# Altium footprint library JST SH Connectors.PcbLib: 29 footprints (part 1 of 2)
Each footprint in its own frame and in the unit in brackets; x right, y up, seen from the top. Pads: shape width x height; smd on the part's side, far side on the other; paste and mask are expansions set on the pad; w line width, h text height; cw(c..) or ccw(c..) is an arc to the next point about the centre after c.
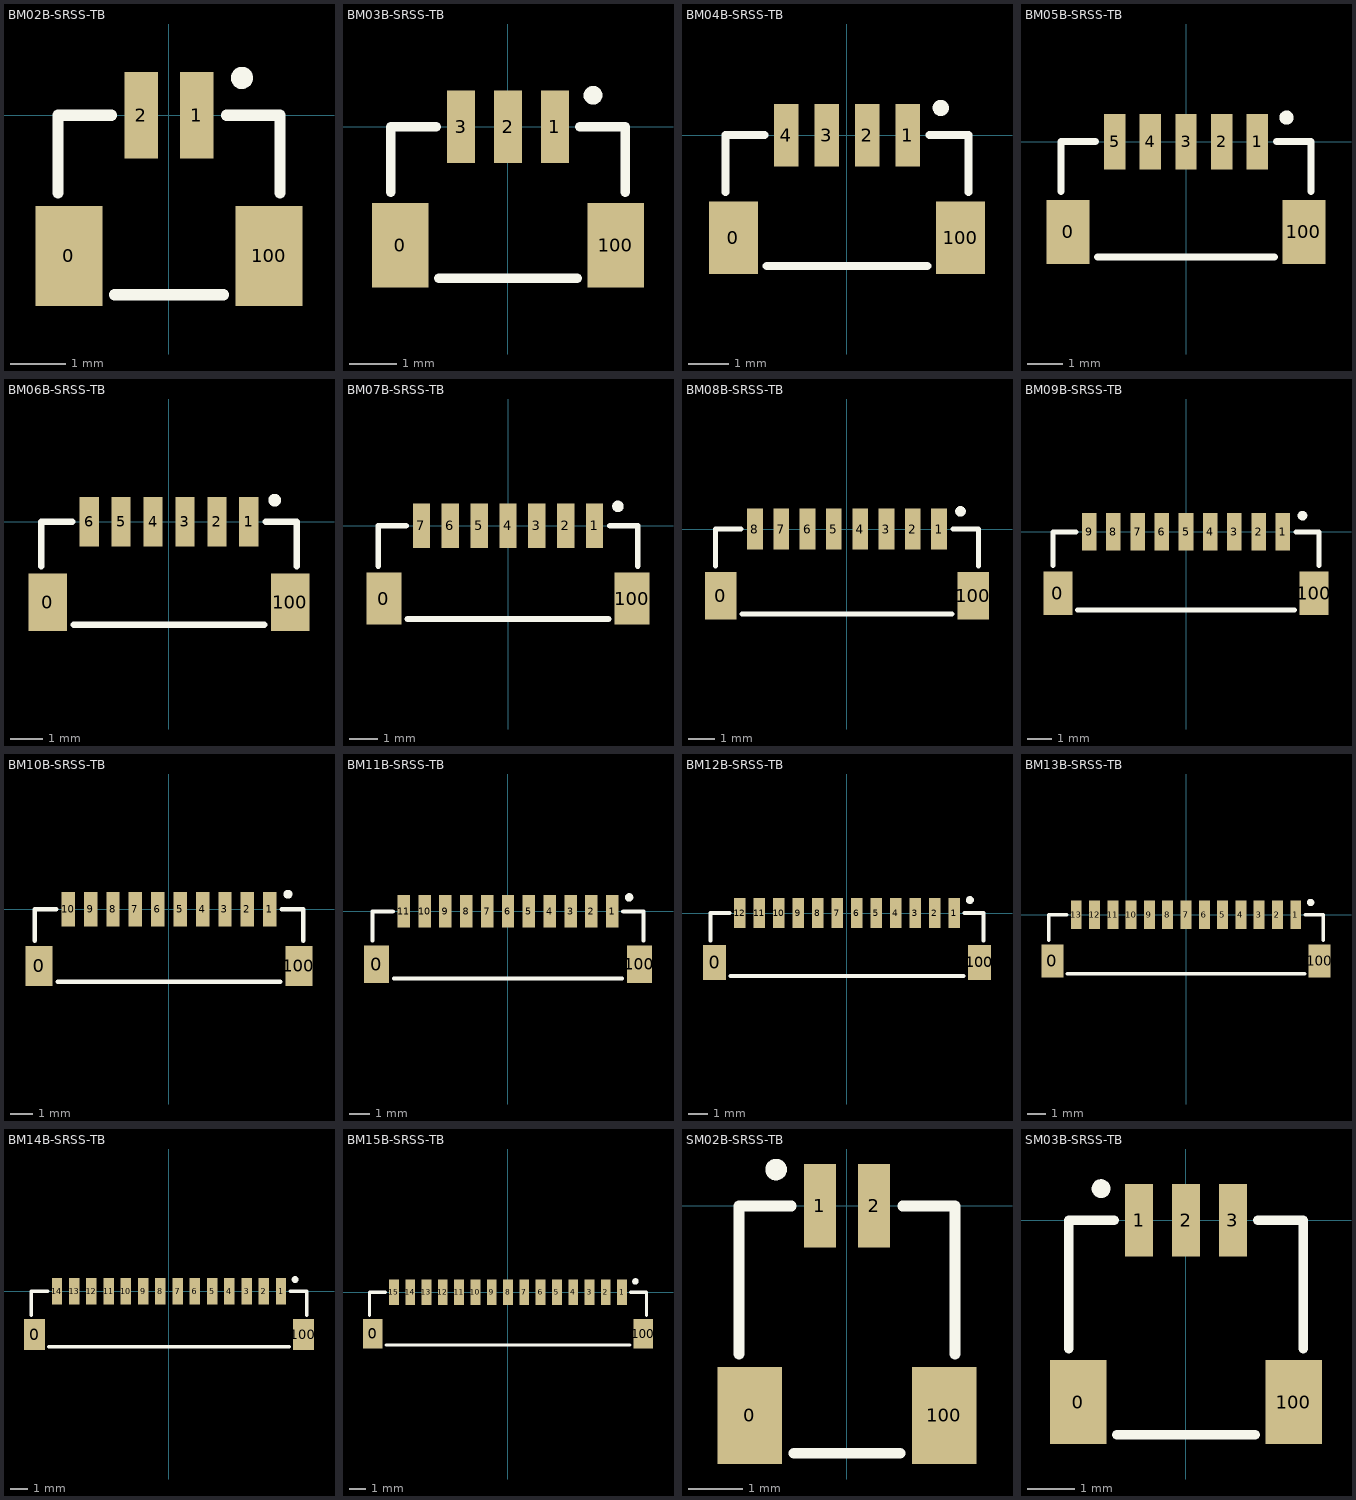
[diagram p0: the footprints below, top view; thin cyan lines are the x and y axes]

## BM02B-SRSS-TB [mm]
pads (4):
  rect 1.2x1.8 smd: 0(-1.8,-2.53) 100(1.8,-2.53)
  rect 0.6x1.55 smd: 1(0.5,0) 2(-0.5,0)
Top Overlay:
  circle w0.2: c1.313,0.672 r0.1
  lines w0.2: -2,-1.397 -2,0 -1.033,0 ; -0.98,-3.23 0.98,-3.23 ; 1.033,0 2,0 2,-1.397
3D body "BM02B-SRSS-TB.STEP": height 4.33, standoff 0.01, extent -2,-3.23 2,0.37

## BM03B-SRSS-TB [mm]
pads (5):
  rect 1.2x1.8 smd: 0(-2.3,-2.53) 100(2.3,-2.53)
  rect 0.6x1.55 smd: 1(1,0) 2(0,0) 3(-1,0)
Top Overlay:
  circle w0.2: c1.813,0.672 r0.1
  lines w0.2: -2.5,-1.397 -2.5,0 -1.533,0 ; -1.48,-3.23 1.48,-3.23 ; 1.533,0 2.5,0 2.5,-1.397
3D body "BM03B-SRSS-TB.STEP": height 4.33, standoff 0.01, extent -2.5,-3.23 2.5,0.37

## BM04B-SRSS-TB [mm]
pads (6):
  rect 1.2x1.8 smd: 0(-2.8,-2.53) 100(2.8,-2.53)
  rect 0.6x1.55 smd: 1(1.5,0) 2(0.5,0) 3(-0.5,0) 4(-1.5,0)
Top Overlay:
  circle w0.2: c2.313,0.672 r0.1
  lines w0.2: -3,-1.397 -3,0 -2.033,0 ; -1.98,-3.23 1.98,-3.23 ; 2.033,0 3,0 3,-1.397
3D body "BM04B-SRSS-TB.STEP": height 4.25, standoff -0.07, extent -3,-3.23 3,0.37

## BM05B-SRSS-TB [mm]
pads (7):
  rect 1.2x1.8 smd: 0(-3.3,-2.53) 100(3.3,-2.53)
  rect 0.6x1.55 smd: 1(2,0) 2(1,0) 3(0,0) 4(-1,0) 5(-2,0)
Top Overlay:
  circle w0.2: c2.813,0.672 r0.1
  lines w0.2: -3.5,-1.397 -3.5,0 -2.533,0 ; -2.48,-3.23 2.48,-3.23 ; 2.533,0 3.5,0 3.5,-1.397
3D body "BM05B-SRSS-TB.STEP": height 4.25, standoff -0.07, extent -3.5,-3.23 3.5,0.37

## BM06B-SRSS-TB [mm]
pads (8):
  rect 1.2x1.8 smd: 0(-3.8,-2.53) 100(3.8,-2.53)
  rect 0.6x1.55 smd: 1(2.5,0) 2(1.5,0) 3(0.5,0) 4(-0.5,0) 5(-1.5,0) 6(-2.5,0)
Top Overlay:
  circle w0.2: c3.313,0.672 r0.1
  lines w0.2: -4,-1.397 -4,0 -3.033,0 ; -2.98,-3.23 2.98,-3.23 ; 3.033,0 4,0 4,-1.397
3D body "BM06B-SRSS-TB.STEP": height 4.25, standoff -0.07, extent -4,-3.23 4,0.37

## BM07B-SRSS-TB [mm]
pads (9):
  rect 1.2x1.8 smd: 0(-4.3,-2.53) 100(4.3,-2.53)
  rect 0.6x1.55 smd: 1(3,0) 2(2,0) 3(1,0) 4(0,0) 5(-1,0) 6(-2,0) 7(-3,0)
Top Overlay:
  circle w0.2: c3.813,0.672 r0.1
  lines w0.2: -4.5,-1.397 -4.5,0 -3.533,0 ; -3.48,-3.23 3.48,-3.23 ; 3.533,0 4.5,0 4.5,-1.397
3D body "BM07B-SRSS-TB.STEP": height 4.33, standoff 0.01, extent -4.5,-3.23 4.5,0.37

## BM08B-SRSS-TB [mm]
pads (10):
  rect 1.2x1.8 smd: 0(-4.8,-2.53) 100(4.8,-2.53)
  rect 0.6x1.55 smd: 1(3.5,0) 2(2.5,0) 3(1.5,0) 4(0.5,0) 5(-0.5,0) 6(-1.5,0) 7(-2.5,0) 8(-3.5,0)
Top Overlay:
  circle w0.2: c4.313,0.672 r0.1
  lines w0.2: -5,-1.397 -5,0 -4.033,0 ; -3.98,-3.23 3.98,-3.23 ; 4.033,0 5,0 5,-1.397
3D body "BM08B-SRSS-TB.STEP": height 4.25, standoff -0.07, extent -5,-3.23 5,0.37

## BM09B-SRSS-TB [mm]
pads (11):
  rect 1.2x1.8 smd: 0(-5.3,-2.53) 100(5.3,-2.53)
  rect 0.6x1.55 smd: 1(4,0) 2(3,0) 3(2,0) 4(1,0) 5(0,0) 6(-1,0) 7(-2,0) 8(-3,0) 9(-4,0)
Top Overlay:
  circle w0.2: c4.813,0.672 r0.1
  lines w0.2: -5.5,-1.397 -5.5,0 -4.533,0 ; -4.48,-3.23 4.48,-3.23 ; 4.533,0 5.5,0 5.5,-1.397
3D body "BM09B-SRSS-TB.STEP": height 4.25, standoff -0.07, extent -5.5,-3.23 5.5,0.37

## BM10B-SRSS-TB [mm]
pads (12):
  rect 1.2x1.8 smd: 0(-5.8,-2.53) 100(5.8,-2.53)
  rect 0.6x1.55 smd: 1(4.5,0) 2(3.5,0) 3(2.5,0) 4(1.5,0) 5(0.5,0) 6(-0.5,0) 7(-1.5,0) 8(-2.5,0) 9(-3.5,0) 10(-4.5,0)
Top Overlay:
  circle w0.2: c5.313,0.672 r0.1
  lines w0.2: -6,-1.397 -6,0 -5.033,0 ; -4.98,-3.23 4.98,-3.23 ; 5.033,0 6,0 6,-1.397
3D body "BM10B-SRSS-TB.STEP": height 4.25, standoff -0.07, extent -6,-3.23 6,0.37

## BM11B-SRSS-TB [mm]
pads (13):
  rect 1.2x1.8 smd: 0(-6.3,-2.53) 100(6.3,-2.53)
  rect 0.6x1.55 smd: 1(5,0) 2(4,0) 3(3,0) 4(2,0) 5(1,0) 6(0,0) 7(-1,0) 8(-2,0) 9(-3,0) 10(-4,0) 11(-5,0)
Top Overlay:
  circle w0.2: c5.813,0.672 r0.1
  lines w0.2: -6.5,-1.397 -6.5,0 -5.533,0 ; -5.48,-3.23 5.48,-3.23 ; 5.533,0 6.5,0 6.5,-1.397
3D body "BM11B-SRSS-TB.STEP": height 4.25, standoff -0.07, extent -6.5,-3.23 6.5,0.37

## BM12B-SRSS-TB [mm]
pads (14):
  rect 1.2x1.8 smd: 0(-6.8,-2.53) 100(6.8,-2.53)
  rect 0.6x1.55 smd: 1(5.5,0) 2(4.5,0) 3(3.5,0) 4(2.5,0) 5(1.5,0) 6(0.5,0) 7(-0.5,0) 8(-1.5,0) 9(-2.5,0) 10(-3.5,0) 11(-4.5,0) 12(-5.5,0)
Top Overlay:
  circle w0.2: c6.313,0.672 r0.1
  lines w0.2: -7,-1.397 -7,0 -6.033,0 ; -5.98,-3.23 5.98,-3.23 ; 6.033,0 7,0 7,-1.397
3D body "BM12B-SRSS-TB.STEP": height 4.25, standoff -0.07, extent -7,-3.23 7,0.37

## BM13B-SRSS-TB [mm]
pads (15):
  rect 1.2x1.8 smd: 0(-7.3,-2.53) 100(7.3,-2.53)
  rect 0.6x1.55 smd: 1(6,0) 2(5,0) 3(4,0) 4(3,0) 5(2,0) 6(1,0) 7(0,0) 8(-1,0) 9(-2,0) 10(-3,0) 11(-4,0) 12(-5,0) 13(-6,0)
Top Overlay:
  circle w0.2: c6.813,0.672 r0.1
  lines w0.2: -7.5,-1.397 -7.5,0 -6.533,0 ; -6.48,-3.23 6.48,-3.23 ; 6.533,0 7.5,0 7.5,-1.397
3D body "BM13B-SRSS-TB.STEP": height 4.25, standoff -0.07, extent -7.5,-3.23 7.5,0.37

## BM14B-SRSS-TB [mm]
pads (16):
  rect 1.2x1.8 smd: 0(-7.8,-2.53) 100(7.8,-2.53)
  rect 0.6x1.55 smd: 1(6.5,0) 2(5.5,0) 3(4.5,0) 4(3.5,0) 5(2.5,0) 6(1.5,0) 7(0.5,0) 8(-0.5,0) 9(-1.5,0) 10(-2.5,0) 11(-3.5,0) 12(-4.5,0) 13(-5.5,0) 14(-6.5,0)
Top Overlay:
  circle w0.2: c7.313,0.672 r0.1
  lines w0.2: -8,-1.397 -8,0 -7.033,0 ; -6.98,-3.23 6.98,-3.23 ; 7.033,0 8,0 8,-1.397
3D body "BM14B-SRSS-TB.STEP": height 4.25, standoff -0.07, extent -8,-3.23 8,0.37

## BM15B-SRSS-TB [mm]
pads (17):
  rect 1.2x1.8 smd: 0(-8.3,-2.53) 100(8.3,-2.53)
  rect 0.6x1.55 smd: 1(7,0) 2(6,0) 3(5,0) 4(4,0) 5(3,0) 6(2,0) 7(1,0) 8(0,0) 9(-1,0) 10(-2,0) 11(-3,0) 12(-4,0) 13(-5,0) 14(-6,0) 15(-7,0)
Top Overlay:
  circle w0.2: c7.813,0.672 r0.1
  lines w0.2: -8.5,-1.397 -8.5,0 -7.533,0 ; -7.48,-3.23 7.48,-3.23 ; 7.533,0 8.5,0 8.5,-1.397
3D body "BM15B-SRSS-TB.STEP": height 4.25, standoff -0.07, extent -8.5,-3.23 8.5,0.37

## SM02B-SRSS-TB [mm]
pads (4):
  rect 1.2x1.8 smd: 0(-1.8,-3.88) 100(1.8,-3.88)
  rect 0.6x1.55 smd: 1(-0.5,0) 2(0.5,0)
Top Overlay:
  circle w0.2: c-1.313,0.672 r0.1
  lines w0.2: -2,-2.743 -2,0 -1.033,0 ; -0.98,-4.58 0.98,-4.58 ; 1.033,0 2,0 2,-2.743
3D body "SM02B-SRSS-TB.STEP": height 2.97, standoff 0.01, extent -2,-4.58 2,0.37

## SM03B-SRSS-TB [mm]
pads (5):
  rect 1.2x1.8 smd: 0(-2.3,-3.88) 100(2.3,-3.88)
  rect 0.6x1.55 smd: 1(-1,0) 2(0,0) 3(1,0)
Top Overlay:
  circle w0.2: c-1.813,0.672 r0.1
  lines w0.2: -2.5,-2.743 -2.5,0 -1.533,0 ; -1.48,-4.58 1.48,-4.58 ; 1.533,0 2.5,0 2.5,-2.743
3D body "SM03B-SRSS-TB.STEP": height 3.25, standoff 0.3, extent -2.5,-4.58 2.5,0.37